# EAGLE library part MCP4018 (library mastrogippo)
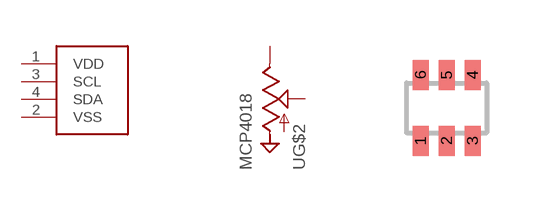
[diagram p8: symbol with the pads of SC70; footprint SC70]

Designator prefix -; gates G$1=MCP4018 G$2=POT

## MCP4018  [SC70]
1  G$1:VDD
2  G$1:VSS
3  G$1:SCL
4  G$1:SDA
5  G$2:WIPER  pas
6  G$2:R  pas

## Footprint SC70 (pad centres in mm)
smd 0.4 x 0.75: 1 -0.65,-0.825; 2 0,-0.825; 3 0.65,-0.825; 4 0.65,0.825; 5 0.002,0.825; 6 -0.65,0.825